# Altium schematic symbol library BLM15PX121BH1D.SchLib: 1 symbol
Pins are listed as number, name and electrical type; pins without a type are passive.

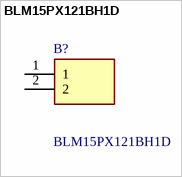
[diagram p0: symbol BLM15PX121BH1D]

## BLM15PX121BH1D
designator B?
Ferrite Beads 0402 120ohm 25% 5A AEC-Q200; Manufacturer_Name: Murata Electronics; Geometry.Height: 0.55mm; Mouser Part Number: 81-BLM15PX121BH1D; Mouser Price/Stock: https://www.mouser.co.uk/ProductDetail/Murata-Electronics/BLM15PX121BH1D?qs=9vOqFld9vZVEANUCBIdXVQ%3D%3D; Manufacturer_Part_Number: BLM15PX121BH1D; Datasheet Link: http://www.murata.com/~/media/webrenewal/support/library/catalog/products/emc/emifil/c31e.ashx?la=en-gb
footprint NFZ15SG152SN10B
pins: 1, 2